# Altium schematic symbol library LM1117MPX-50NOPB.SchLib: 1 symbol
Pins are listed as number, name and electrical type; pins without a type are passive.

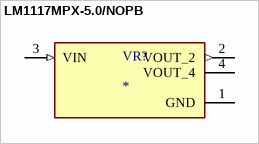
[diagram p0: symbol LM1117MPX-5.0/NOPB]

## LM1117MPX-5.0/NOPB
designator VR?
800-mA 15-V linear voltage regulator 4-SOT-223 0 to 125; MF: {'manufacturer': u'ON Semiconductor'}; MP: LM1117MPX-5.0/NOPB; Value: *; Package: None; Price: None; Availability: Unavailable
footprint VREG_LM1117MPX-5.0/NOPB
pins: 1 GND (power), 2 VOUT_2 (out), 3 VIN (in), 4 VOUT_4